# Altium integrated library ULN2803ADW.IntLib: 1 symbol
Pins are listed as number, name and electrical type; pins without a type are passive.

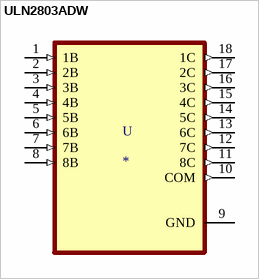
[diagram p0: symbol ULN2803ADW]

## ULN2803ADW
designator U
Darlington Transistor Array; MF: Texas Instruments; MP: ULN2803ADW; Value: *; Package: SOIC-18 Texas Instruments; Price: None; Texas_Instruments-Purchase-URL: https://snapeda.com/shop?store=Texas+Instruments&id=38030; Availability: Unavailable; Mouser-Purchase-URL: https://snapeda.com/shop?store=Mouser&id=38030; DigiKey-Purchase-URL: https://snapeda.com/shop?store=DigiKey&id=38030; SnapEDA_Link: https://www.snapeda.com/parts/ULN2803ADW/Texas%20Instruments/view-part/38030/?ref=snap
footprint SOIC127P1030X265-18N
pins: 1 1B (in), 2 2B (in), 3 3B (in), 4 4B (in), 5 5B (in), 6 6B (in), 7 7B (in), 8 8B (in), 9 GND (power), 10 COM (out), 11 8C (out), 12 7C (out), 13 6C (out), 14 5C (out), 15 4C (out), 16 3C (out), 17 2C (out), 18 1C (out)